# Altium schematic symbol library EL-sense_Audio.SchLib: 1 symbol
Pins are listed as number, name and electrical type; pins without a type are passive.

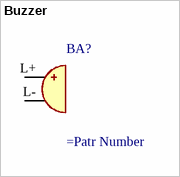
[diagram p0: symbol Buzzer]

## Buzzer
designator BA?
pins: L+, L-